# Altium schematic symbol library GY-NEO6MV2.SchLib: 1 symbol
Pins are listed as number, name and electrical type; pins without a type are passive.

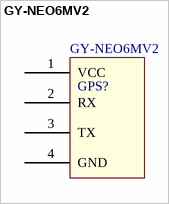
[diagram p0: symbol GY-NEO6MV2]

## GY-NEO6MV2
designator GPS?, comment Modulo GPS GY-NEO6MV2  (value not drawn)
Modulo GPS utilizado no projeto ASR1000.
footprint GY-NEO6MV2 (Modulo GPS usado no projeto ASR1000.)
pins: 1 VCC, 2 RX, 3 TX, 4 GND